# Altium schematic symbol library Diode_SP3003-04ATG_LVDS_ESD.SchLib: 1 symbol
Pins are listed as number, name and electrical type; pins without a type are passive.

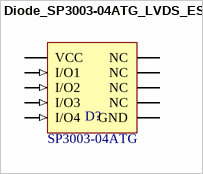
[diagram p0: symbol Diode_SP3003-04ATG_LVDS_ESD]

## Diode_SP3003-04ATG_LVDS_ESD
designator D?  Series: SP3003-04ATG  (hidden comment: Diode_SP3003-04ATG_LVDS_ESD)
ESD Suppressors / TVS Diodes 4 Ch 8kV 0.65pF SPA; Supplier 1: Mouser; Supplier Part Number 1: 576-SP3003-04ATG
footprint Diode_SP3003-04ATG_LVDS_ESD
pins: 1 I/O1 (in), 2 I/O2 (in), 3 VCC, 4 I/O3 (in), 5 I/O4 (in), 6 NC (hiz), 7 NC (hiz), 8 GND (power), 9 NC (hiz), 10 NC (hiz)